# Altium schematic symbol library Schlib.SchLib: 1 symbol
Pins are listed as number, name and electrical type; pins without a type are passive.

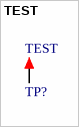
[diagram p0: symbol TEST]

## TEST
designator TP?
测试点; 版权归属: 源创客; BOM名称: 测试点; 学习资源: www.ooocke.com
footprint test_1
footprint test_2
pins: 1